# Altium schematic symbol library WE-TI HV.SchLib: 21 symbols
Pins are listed as number, name and electrical type; pins without a type are passive.

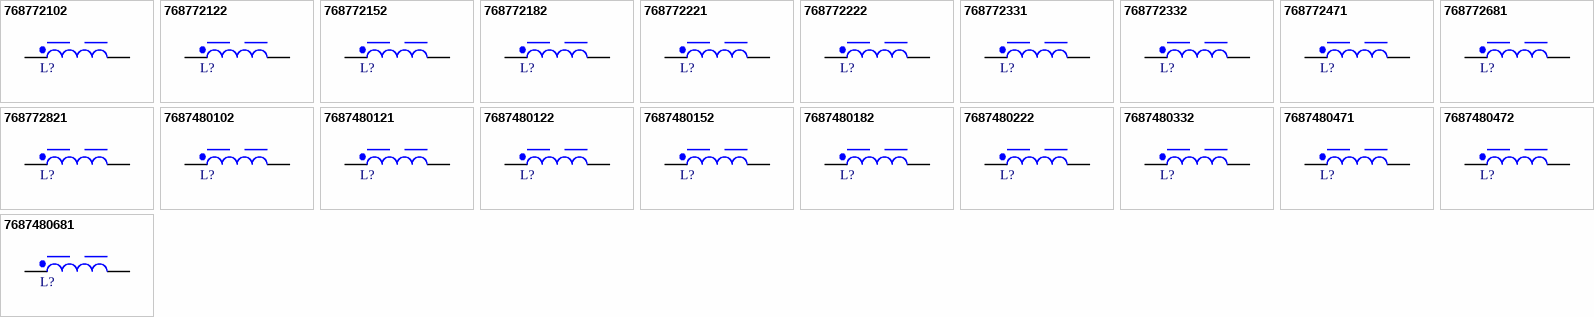
[diagram p0: symbols 768772102 to 7687480681]

## 768772102
designator L?, comment 1000µH, 0.5A  (value not drawn)
WE-TI HV THT Radial Leaded Wire Wound High Voltage Inductor, size 8095, 1000µH, 0.5A, 2.08Ω; Manufacturer Part Number: 768772102; Manufacturer: Wurth Elektronik; Case/Size Code: 8095; DC Resistance: 1.75Ω; Operating Voltage (DC): 400V; Saturation Current: 0.55A; Self Resonant Frequency: 1.8MHz; Category: High Voltage Power Inductors; Match Code: WE-TI HV; ComponentLink1Description: Website Link; ComponentLink1URL: https://www.we-online.com/redexpert/article/768772102?ad; ComponentLink2Description: Datasheet Link; ComponentLink2URL: https://www.we-online.com/redexpert/spec/768772102?ad; Mount: Through Hole; Operating Temperature Max: 125°C; Operating Temperature Min: -40°C; Packaging: Tray; Length: 7.8mm; Width: 7.8mm; Height: 9.5mm; DC Resistance Max: 2.08Ω; Inductance: 1000µH; Rated Current: 0.5A
footprint WE-TI HV_8095
simulation model 8095_768772102_1000u
pins: 1, 2

## 768772122
designator L?, comment 1200µH, 0.4A  (value not drawn)
WE-TI HV THT Radial Leaded Wire Wound High Voltage Inductor, size 8095, 1200µH, 0.4A, 2.64Ω; Manufacturer Part Number: 768772122; Manufacturer: Wurth Elektronik; Case/Size Code: 8095; DC Resistance: 2.3Ω; Operating Voltage (DC): 400V; Saturation Current: 0.45A; Self Resonant Frequency: 1.65MHz; Category: High Voltage Power Inductors; Match Code: WE-TI HV; ComponentLink1Description: Website Link; ComponentLink1URL: https://www.we-online.com/redexpert/article/768772122?ad; ComponentLink2Description: Datasheet Link; ComponentLink2URL: https://www.we-online.com/redexpert/spec/768772122?ad; Mount: Through Hole; Operating Temperature Max: 125°C; Operating Temperature Min: -40°C; Packaging: Tray; Length: 7.8mm; Width: 7.8mm; Height: 9.5mm; DC Resistance Max: 2.64Ω; Inductance: 1200µH; Rated Current: 0.4A
footprint WE-TI HV_8095
simulation model 8095_768772122_1200u
pins: 1, 2

## 768772152
designator L?, comment 1500µH, 0.38A  (value not drawn)
WE-TI HV THT Radial Leaded Wire Wound High Voltage Inductor, size 8095, 1500µH, 0.38A, 3.5Ω; Manufacturer Part Number: 768772152; Manufacturer: Wurth Elektronik; Case/Size Code: 8095; DC Resistance: 2.6Ω; Operating Voltage (DC): 400V; Saturation Current: 0.4A; Self Resonant Frequency: 1.5MHz; Category: High Voltage Power Inductors; Match Code: WE-TI HV; ComponentLink1Description: Website Link; ComponentLink1URL: https://www.we-online.com/redexpert/article/768772152?ad; ComponentLink2Description: Datasheet Link; ComponentLink2URL: https://www.we-online.com/redexpert/spec/768772152?ad; Mount: Through Hole; Operating Temperature Max: 125°C; Operating Temperature Min: -40°C; Packaging: Tray; Length: 7.8mm; Width: 7.8mm; Height: 9.5mm; DC Resistance Max: 3.5Ω; Inductance: 1500µH; Rated Current: 0.38A
footprint WE-TI HV_8095
simulation model 8095_768772152_1500u
pins: 1, 2

## 768772182
designator L?, comment 1800µH, 0.35A  (value not drawn)
WE-TI HV THT Radial Leaded Wire Wound High Voltage Inductor, size 8095, 1800µH, 0.35A, 3.5Ω; Manufacturer Part Number: 768772182; Manufacturer: Wurth Elektronik; Case/Size Code: 8095; DC Resistance: 3Ω; Operating Voltage (DC): 400V; Saturation Current: 0.38A; Self Resonant Frequency: 1.4MHz; Category: High Voltage Power Inductors; Match Code: WE-TI HV; ComponentLink1Description: Website Link; ComponentLink1URL: https://www.we-online.com/redexpert/article/768772182?ad; ComponentLink2Description: Datasheet Link; ComponentLink2URL: https://www.we-online.com/redexpert/spec/768772182?ad; Mount: Through Hole; Operating Temperature Max: 125°C; Operating Temperature Min: -40°C; Packaging: Tray; Length: 7.8mm; Width: 7.8mm; Height: 9.5mm; DC Resistance Max: 3.5Ω; Inductance: 1800µH; Rated Current: 0.35A
footprint WE-TI HV_8095
simulation model 8095_768772182_1800u
pins: 1, 2

## 768772221
designator L?, comment 220µH, 0.9A  (value not drawn)
WE-TI HV THT Radial Leaded Wire Wound High Voltage Inductor, size 8095, 220µH, 0.9A, 0.6Ω; Manufacturer Part Number: 768772221; Manufacturer: Wurth Elektronik; Case/Size Code: 8095; DC Resistance: 0.5Ω; Operating Voltage (DC): 400V; Saturation Current: 1.3A; Self Resonant Frequency: 3.7MHz; Category: High Voltage Power Inductors; Match Code: WE-TI HV; ComponentLink1Description: Website Link; ComponentLink1URL: https://www.we-online.com/redexpert/article/768772221?ad; ComponentLink2Description: Datasheet Link; ComponentLink2URL: https://www.we-online.com/redexpert/spec/768772221?ad; Mount: Through Hole; Operating Temperature Max: 125°C; Operating Temperature Min: -40°C; Packaging: Tray; Length: 7.8mm; Width: 7.8mm; Height: 9.5mm; DC Resistance Max: 0.6Ω; Inductance: 220µH; Rated Current: 0.9A
footprint WE-TI HV_8095
simulation model 8095_768772221_220u
pins: 1, 2

## 768772222
designator L?, comment 2200µH, 0.32A  (value not drawn)
WE-TI HV THT Radial Leaded Wire Wound High Voltage Inductor, size 8095, 2200µH, 0.32A, 4.73Ω; Manufacturer Part Number: 768772222; Manufacturer: Wurth Elektronik; Case/Size Code: 8095; DC Resistance: 3.9Ω; Operating Voltage (DC): 400V; Self Resonant Frequency: 1.2MHz; Category: High Voltage Power Inductors; Match Code: WE-TI HV; ComponentLink1Description: Website Link; ComponentLink1URL: https://www.we-online.com/redexpert/article/768772222?ad; ComponentLink2Description: Datasheet Link; ComponentLink2URL: https://www.we-online.com/redexpert/spec/768772222?ad; Mount: Through Hole; Operating Temperature Max: 125°C; Operating Temperature Min: -40°C; Packaging: Tray; Length: 7.8mm; Width: 7.8mm; Height: 9.5mm; DC Resistance Max: 4.73Ω; Inductance: 2200µH; Rated Current: 0.32A; Saturation Current: 0.32A
footprint WE-TI HV_8095
simulation model 8095_768772222_2200u
pins: 1, 2

## 768772331
designator L?, comment 330µH, 0.7A  (value not drawn)
WE-TI HV THT Radial Leaded Wire Wound High Voltage Inductor, size 8095, 330µH, 0.7A, 0.7Ω; Manufacturer Part Number: 768772331; Manufacturer: Wurth Elektronik; Case/Size Code: 8095; DC Resistance: 0.61Ω; Operating Voltage (DC): 400V; Saturation Current: 0.95A; Self Resonant Frequency: 3.3MHz; Category: High Voltage Power Inductors; Match Code: WE-TI HV; ComponentLink1Description: Website Link; ComponentLink1URL: https://www.we-online.com/redexpert/article/768772331?ad; ComponentLink2Description: Datasheet Link; ComponentLink2URL: https://www.we-online.com/redexpert/spec/768772331?ad; Mount: Through Hole; Operating Temperature Max: 125°C; Operating Temperature Min: -40°C; Packaging: Tray; Length: 7.8mm; Width: 7.8mm; Height: 9.5mm; DC Resistance Max: 0.7Ω; Inductance: 330µH; Rated Current: 0.7A
footprint WE-TI HV_8095
simulation model 8095_768772331_330u
pins: 1, 2

## 768772332
designator L?, comment 3300µH, 0.25A  (value not drawn)
WE-TI HV THT Radial Leaded Wire Wound High Voltage Inductor, size 8095, 3300µH, 0.25A, 7.08Ω; Manufacturer Part Number: 768772332; Manufacturer: Wurth Elektronik; Case/Size Code: 8095; DC Resistance: 5.9Ω; Operating Voltage (DC): 400V; Saturation Current: 0.27A; Self Resonant Frequency: 0.85MHz; Category: High Voltage Power Inductors; Match Code: WE-TI HV; ComponentLink1Description: Website Link; ComponentLink1URL: https://www.we-online.com/redexpert/article/768772332?ad; ComponentLink2Description: Datasheet Link; ComponentLink2URL: https://www.we-online.com/redexpert/spec/768772332?ad; Mount: Through Hole; Operating Temperature Max: 125°C; Operating Temperature Min: -40°C; Packaging: Tray; Length: 7.8mm; Width: 7.8mm; Height: 9.5mm; DC Resistance Max: 7.08Ω; Inductance: 3300µH; Rated Current: 0.25A
footprint WE-TI HV_8095
simulation model 8095_768772332_3.3m
pins: 1, 2

## 768772471
designator L?, comment 470µH, 0.6A  (value not drawn)
WE-TI HV THT Radial Leaded Wire Wound High Voltage Inductor, size 8095, 470µH, 0.6A, 1.32Ω; Manufacturer Part Number: 768772471; Manufacturer: Wurth Elektronik; Case/Size Code: 8095; DC Resistance: 1.14Ω; Operating Voltage (DC): 400V; Saturation Current: 0.9A; Self Resonant Frequency: 2.5MHz; Category: High Voltage Power Inductors; Match Code: WE-TI HV; ComponentLink1Description: Website Link; ComponentLink1URL: https://www.we-online.com/redexpert/article/768772471?ad; ComponentLink2Description: Datasheet Link; ComponentLink2URL: https://www.we-online.com/redexpert/spec/768772471?ad; Mount: Through Hole; Operating Temperature Max: 125°C; Operating Temperature Min: -40°C; Packaging: Tray; Length: 7.8mm; Width: 7.8mm; Height: 9.5mm; DC Resistance Max: 1.32Ω; Inductance: 470µH; Rated Current: 0.6A
footprint WE-TI HV_8095
simulation model 8095_768772471_470u
pins: 1, 2

## 768772681
designator L?, comment 680µH, 0.52A  (value not drawn)
WE-TI HV THT Radial Leaded Wire Wound High Voltage Inductor, size 8095, 680µH, 0.52A, 1.68Ω; Manufacturer Part Number: 768772681; Manufacturer: Wurth Elektronik; Case/Size Code: 8095; DC Resistance: 1.4Ω; Operating Voltage (DC): 400V; Saturation Current: 0.76A; Self Resonant Frequency: 2.15MHz; Category: High Voltage Power Inductors; Match Code: WE-TI HV; ComponentLink1Description: Website Link; ComponentLink1URL: https://www.we-online.com/redexpert/article/768772681?ad; ComponentLink2Description: Datasheet Link; ComponentLink2URL: https://www.we-online.com/redexpert/spec/768772681?ad; Mount: Through Hole; Operating Temperature Max: 125°C; Operating Temperature Min: -40°C; Packaging: Tray; Length: 7.8mm; Width: 7.8mm; Height: 9.5mm; DC Resistance Max: 1.68Ω; Inductance: 680µH; Rated Current: 0.52A
footprint WE-TI HV_8095
simulation model 8095_768772681_680u
pins: 1, 2

## 768772821
designator L?, comment 820µH, 0.5A  (value not drawn)
WE-TI HV THT Radial Leaded Wire Wound High Voltage Inductor, size 8095, 820µH, 0.5A, 1.92Ω; Manufacturer Part Number: 768772821; Manufacturer: Wurth Elektronik; Case/Size Code: 8095; DC Resistance: 1.6Ω; Operating Voltage (DC): 400V; Saturation Current: 0.72A; Self Resonant Frequency: 2MHz; Category: High Voltage Power Inductors; Match Code: WE-TI HV; ComponentLink1Description: Website Link; ComponentLink1URL: https://www.we-online.com/redexpert/article/768772821?ad; ComponentLink2Description: Datasheet Link; ComponentLink2URL: https://www.we-online.com/redexpert/spec/768772821?ad; Mount: Through Hole; Operating Temperature Max: 125°C; Operating Temperature Min: -40°C; Packaging: Tray; Length: 7.8mm; Width: 7.8mm; Height: 9.5mm; DC Resistance Max: 1.92Ω; Inductance: 820µH; Rated Current: 0.5A
footprint WE-TI HV_8095
simulation model 8095_768772821_820u
pins: 1, 2

## 7687480102
designator L?, comment 1000µH, 0.8A  (value not drawn)
WE-TI HV THT Radial Leaded Wire Wound High Voltage Inductor, size 1014, 1000µH, 0.8A, 1.2Ω; Manufacturer Part Number: 7687480102; Manufacturer: Wurth Elektronik; Case/Size Code: 1014; DC Resistance: 1Ω; Operating Voltage (DC): 400V; Self Resonant Frequency: 1.1MHz; Category: High Voltage Power Inductors; Match Code: WE-TI HV; ComponentLink1Description: Website Link; ComponentLink1URL: https://www.we-online.com/redexpert/article/7687480102?ad; ComponentLink2Description: Datasheet Link; ComponentLink2URL: https://www.we-online.com/redexpert/spec/7687480102?ad; Mount: Through Hole; Operating Temperature Max: 125°C; Operating Temperature Min: -40°C; Packaging: Tray; Length: 10.5mm; Width: 10.5mm; Height: 14.5mm; DC Resistance Max: 1.2Ω; Inductance: 1000µH; Rated Current: 0.8A; Saturation Current: 0.8A
footprint WE-TI HV_1014
simulation model 1014_7687480102_1000u
pins: 1, 2

## 7687480121
designator L?, comment 120µH, 2A  (value not drawn)
WE-TI HV THT Radial Leaded Wire Wound High Voltage Inductor, size 1014, 120µH, 2A, 0.18Ω; Manufacturer Part Number: 7687480121; Manufacturer: Wurth Elektronik; Case/Size Code: 1014; DC Resistance: 0.12Ω; Operating Voltage (DC): 400V; Self Resonant Frequency: 3.1MHz; Category: High Voltage Power Inductors; Match Code: WE-TI HV; ComponentLink1Description: Website Link; ComponentLink1URL: https://www.we-online.com/redexpert/article/7687480121?ad; ComponentLink2Description: Datasheet Link; ComponentLink2URL: https://www.we-online.com/redexpert/spec/7687480121?ad; Mount: Through Hole; Operating Temperature Max: 125°C; Operating Temperature Min: -40°C; Packaging: Tray; Length: 10.5mm; Width: 10.5mm; Height: 14.5mm; DC Resistance Max: 0.18Ω; Inductance: 120µH; Rated Current: 2A; Saturation Current: 2A
footprint WE-TI HV_1014
simulation model 1014_7687480121_120u
pins: 1, 2

## 7687480122
designator L?, comment 1200µH, 0.62A  (value not drawn)
WE-TI HV THT Radial Leaded Wire Wound High Voltage Inductor, size 1014, 1200µH, 0.62A, 1.4Ω; Manufacturer Part Number: 7687480122; Manufacturer: Wurth Elektronik; Case/Size Code: 1014; DC Resistance: 1.15Ω; Operating Voltage (DC): 400V; Saturation Current: 0.84A; Self Resonant Frequency: 1.3MHz; Category: High Voltage Power Inductors; Match Code: WE-TI HV; ComponentLink1Description: Website Link; ComponentLink1URL: https://www.we-online.com/redexpert/article/7687480122?ad; ComponentLink2Description: Datasheet Link; ComponentLink2URL: https://www.we-online.com/redexpert/spec/7687480122?ad; Mount: Through Hole; Operating Temperature Max: 125°C; Operating Temperature Min: -40°C; Packaging: Tray; Length: 10.5mm; Width: 10.5mm; Height: 14.5mm; DC Resistance Max: 1.4Ω; Inductance: 1200µH; Rated Current: 0.62A
footprint WE-TI HV_1014
simulation model 1014_7687480122_1200u
pins: 1, 2

## 7687480152
designator L?, comment 1500µH, 0.55A  (value not drawn)
WE-TI HV THT Radial Leaded Wire Wound High Voltage Inductor, size 1014, 1500µH, 0.55A, 1.8Ω; Manufacturer Part Number: 7687480152; Manufacturer: Wurth Elektronik; Case/Size Code: 1014; DC Resistance: 1.5Ω; Operating Voltage (DC): 400V; Saturation Current: 0.75A; Self Resonant Frequency: 1.1MHz; Category: High Voltage Power Inductors; Match Code: WE-TI HV; ComponentLink1Description: Website Link; ComponentLink1URL: https://www.we-online.com/redexpert/article/7687480152?ad; ComponentLink2Description: Datasheet Link; ComponentLink2URL: https://www.we-online.com/redexpert/spec/7687480152?ad; Mount: Through Hole; Operating Temperature Max: 125°C; Operating Temperature Min: -40°C; Packaging: Tray; Length: 10.5mm; Width: 10.5mm; Height: 14.5mm; DC Resistance Max: 1.8Ω; Inductance: 1500µH; Rated Current: 0.55A
footprint WE-TI HV_1014
simulation model 1014_7687480152_1500u
pins: 1, 2

## 7687480182
designator L?, comment 1800µH, 0.5A  (value not drawn)
WE-TI HV THT Radial Leaded Wire Wound High Voltage Inductor, size 1014, 1800µH, 0.5A, 2.1Ω; Manufacturer Part Number: 7687480182; Manufacturer: Wurth Elektronik; Case/Size Code: 1014; DC Resistance: 1.8Ω; Operating Voltage (DC): 400V; Saturation Current: 0.68A; Self Resonant Frequency: 1.1MHz; Category: High Voltage Power Inductors; Match Code: WE-TI HV; ComponentLink1Description: Website Link; ComponentLink1URL: https://www.we-online.com/redexpert/article/7687480182?ad; ComponentLink2Description: Datasheet Link; ComponentLink2URL: https://www.we-online.com/redexpert/spec/7687480182?ad; Mount: Through Hole; Operating Temperature Max: 125°C; Operating Temperature Min: -40°C; Packaging: Tray; Length: 10.5mm; Width: 10.5mm; Height: 14.5mm; DC Resistance Max: 2.1Ω; Inductance: 1800µH; Rated Current: 0.5A
footprint WE-TI HV_1014
simulation model 1014_7687480182_1800u
pins: 1, 2

## 7687480222
designator L?, comment 2200µH, 0.5A  (value not drawn)
WE-TI HV THT Radial Leaded Wire Wound High Voltage Inductor, size 1014, 2200µH, 0.5A, 2.5Ω; Manufacturer Part Number: 7687480222; Manufacturer: Wurth Elektronik; Case/Size Code: 1014; DC Resistance: 2Ω; Operating Voltage (DC): 400V; Saturation Current: 0.58A; Self Resonant Frequency: 0.82MHz; Category: High Voltage Power Inductors; Match Code: WE-TI HV; ComponentLink1Description: Website Link; ComponentLink1URL: https://www.we-online.com/redexpert/article/7687480222?ad; ComponentLink2Description: Datasheet Link; ComponentLink2URL: https://www.we-online.com/redexpert/spec/7687480222?ad; Mount: Through Hole; Operating Temperature Max: 125°C; Operating Temperature Min: -40°C; Packaging: Tray; Length: 10.5mm; Width: 10.5mm; Height: 14.5mm; DC Resistance Max: 2.5Ω; Inductance: 2200µH; Rated Current: 0.5A
footprint WE-TI HV_1014
simulation model 1014_7687480222_2200u
pins: 1, 2

## 7687480332
designator L?, comment 3300µH, 0.35A  (value not drawn)
WE-TI HV THT Radial Leaded Wire Wound High Voltage Inductor, size 1014, 3300µH, 0.35A, 4Ω; Manufacturer Part Number: 7687480332; Manufacturer: Wurth Elektronik; Case/Size Code: 1014; DC Resistance: 3.6Ω; Operating Voltage (DC): 400V; Saturation Current: 0.5A; Self Resonant Frequency: 0.75MHz; Category: High Voltage Power Inductors; Match Code: WE-TI HV; ComponentLink1Description: Website Link; ComponentLink1URL: https://www.we-online.com/redexpert/article/7687480332?ad; ComponentLink2Description: Datasheet Link; ComponentLink2URL: https://www.we-online.com/redexpert/spec/7687480332?ad; Mount: Through Hole; Operating Temperature Max: 125°C; Operating Temperature Min: -40°C; Packaging: Tray; Length: 10.5mm; Width: 10.5mm; Height: 14.5mm; DC Resistance Max: 4Ω; Inductance: 3300µH; Rated Current: 0.35A
footprint WE-TI HV_1014
simulation model 1014_7687480332_3300u
pins: 1, 2

## 7687480471
designator L?, comment 470µH, 1A  (value not drawn)
WE-TI HV THT Radial Leaded Wire Wound High Voltage Inductor, size 1014, 470µH, 1A, 0.54Ω; Manufacturer Part Number: 7687480471; Manufacturer: Wurth Elektronik; Case/Size Code: 1014; DC Resistance: 0.44Ω; Operating Voltage (DC): 400V; Saturation Current: 1.3A; Self Resonant Frequency: 1.7MHz; Category: High Voltage Power Inductors; Match Code: WE-TI HV; ComponentLink1Description: Website Link; ComponentLink1URL: https://www.we-online.com/redexpert/article/7687480471?ad; ComponentLink2Description: Datasheet Link; ComponentLink2URL: https://www.we-online.com/redexpert/spec/7687480471?ad; Mount: Through Hole; Operating Temperature Max: 125°C; Operating Temperature Min: -40°C; Packaging: Tray; Length: 10.5mm; Width: 10.5mm; Height: 14.5mm; DC Resistance Max: 0.54Ω; Inductance: 470µH; Rated Current: 1A
footprint WE-TI HV_1014
simulation model 1014_7687480471_470u
pins: 1, 2

## 7687480472
designator L?, comment 4700µH, 0.3A  (value not drawn)
WE-TI HV THT Radial Leaded Wire Wound High Voltage Inductor, size 1014, 4700µH, 0.3A, 5.8Ω; Manufacturer Part Number: 7687480472; Manufacturer: Wurth Elektronik; Case/Size Code: 1014; DC Resistance: 4.8Ω; Operating Voltage (DC): 400V; Saturation Current: 0.42A; Self Resonant Frequency: 0.63MHz; Category: High Voltage Power Inductors; Match Code: WE-TI HV; ComponentLink1Description: Website Link; ComponentLink1URL: https://www.we-online.com/redexpert/article/7687480472?ad; ComponentLink2Description: Datasheet Link; ComponentLink2URL: https://www.we-online.com/redexpert/spec/7687480472?ad; Mount: Through Hole; Operating Temperature Max: 125°C; Operating Temperature Min: -40°C; Packaging: Tray; Length: 10.5mm; Width: 10.5mm; Height: 14.5mm; DC Resistance Max: 5.8Ω; Inductance: 4700µH; Rated Current: 0.3A
footprint WE-TI HV_1014
simulation model 1014_7687480472_4700u
pins: 1, 2

## 7687480681
designator L?, comment 680µH, 0.78A  (value not drawn)
WE-TI HV THT Radial Leaded Wire Wound High Voltage Inductor, size 1014, 680µH, 0.78A, 0.79Ω; Manufacturer Part Number: 7687480681; Manufacturer: Wurth Elektronik; Case/Size Code: 1014; DC Resistance: 0.72Ω; Operating Voltage (DC): 400V; Saturation Current: 1.1A; Self Resonant Frequency: 1.7MHz; Category: High Voltage Power Inductors; Match Code: WE-TI HV; ComponentLink1Description: Website Link; ComponentLink1URL: https://www.we-online.com/redexpert/article/7687480681?ad; ComponentLink2Description: Datasheet Link; ComponentLink2URL: https://www.we-online.com/redexpert/spec/7687480681?ad; Mount: Through Hole; Operating Temperature Max: 125°C; Operating Temperature Min: -40°C; Packaging: Tray; Length: 10.5mm; Width: 10.5mm; Height: 14.5mm; DC Resistance Max: 0.79Ω; Inductance: 680µH; Rated Current: 0.78A
footprint WE-TI HV_1014
simulation model 1014_7687480681_680u
pins: 1, 2